# Altium footprint library libreriaPcb.PcbLib: 683 footprints (part 7 of 44)
Each footprint in its own frame and in the unit in brackets; x right, y up, seen from the top. Pads: shape width x height; smd on the part's side, far side on the other; paste and mask are expansions set on the pad; w line width, h text height; cw(c..) or ccw(c..) is an arc to the next point about the centre after c.
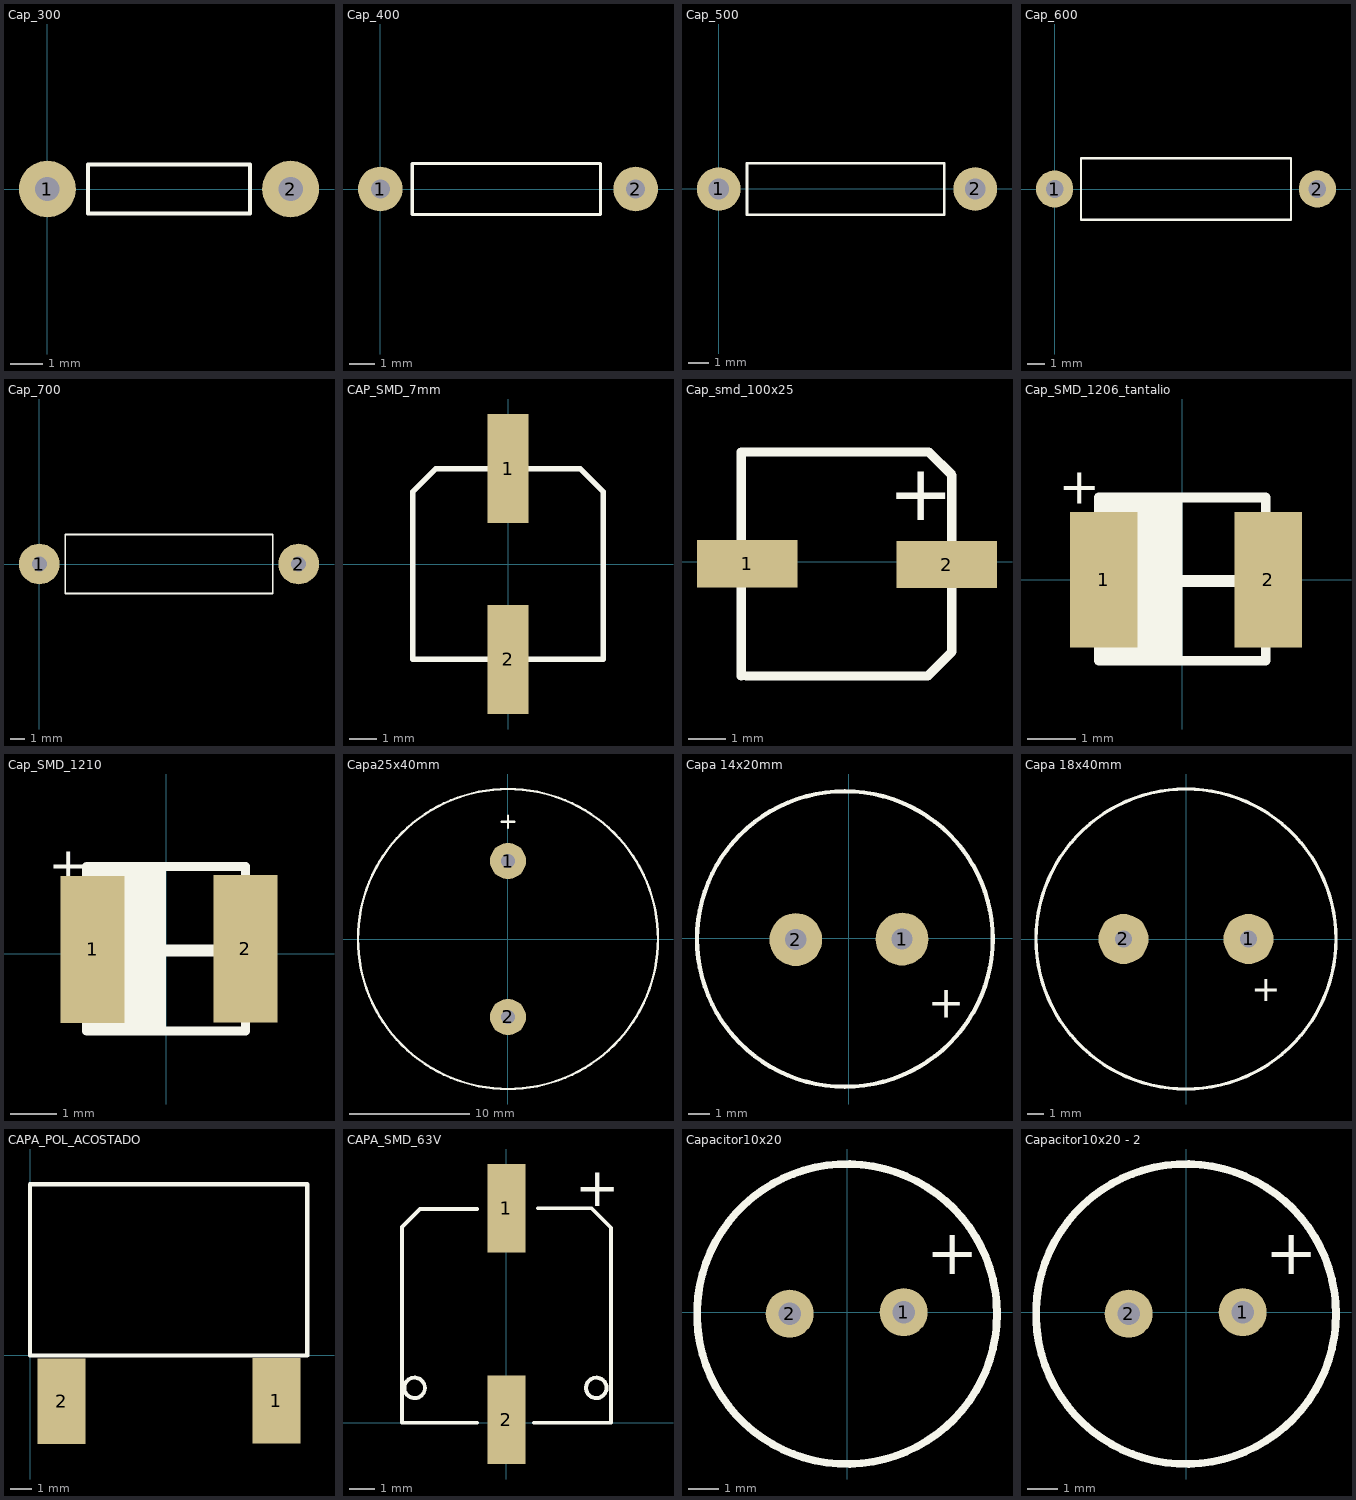
[diagram p6: the footprints below, top view; thin cyan lines are the x and y axes]

## Cap_300 [mil]
pads (2):
  round 70 / inner round 0 / far side round 70 hole 30 paste+0: 1(0,0) 2(300,0)
Top Overlay:
  lines w5: 50,-30 50,30 250,30 250,-30 50,-30

## Cap_400 [mil]
pads (2):
  round 70 / inner round 0 / far side round 70 hole 30 paste+0: 1(0,0) 2(400,0)
Top Overlay:
  lines w5: 50,-40 345,-40 345,40 50,40 50,-40

## Cap_500 [mil]
pads (2):
  round 85 / inner round 0 / far side round 85 hole 40 paste+0: 1(0,0) 2(500,0)
Top Overlay:
  lines w5: 55,-50 55,50 440,50 440,-50 55,-50

## Cap_600 [mil]
pads (2):
  round 85 / inner round 0 / far side round 85 hole 40 paste+0: 1(0,0) 2(600,0)
Top Overlay:
  lines w5: 60,-70 540,-70 540,70 60,70 60,-70

## Cap_700 [mil]
pads (2):
  round 110 / inner round 0 / far side round 110 hole 40 paste+0: 1(0,0) 2(700,0)
Top Overlay:
  lines w5: 70,-80 70,80 630,80 630,-80 70,-80

## CAP_SMD_7mm [mm]
pads (2):
  rect 1.5x4 smd: 1(0,3.5) 2(0,-3.5)
Top Overlay:
  lines w0.2: -3.5,-3.5 -3.5,2.647 -2.647,3.5 2.647,3.5 3.5,2.647 3.5,-3.5 -3.5,-3.5

## Cap_smd_100x25 [mm]
pads (2):
  rect 2.7x1.27 smd: 1(-7.78,-0.05) 2(-2.43,-0.07)
Top Overlay:
  lines w0.254: -7.938,-3.06 -7.94,0.92 -7.94,2.95 -2.91,2.95 -2.29,2.33 -2.29,-2.41 -2.94,-3.06 -7.81,-3.06
  text "+" at -4,1.12 h1.52
3D body: height 1, standoff 0, extent -7.81,-2.92 -2.43,2.82
3D body: height 6, standoff 1, extent -7.674,-2.579 -2.694,2.411

## Cap_SMD_1206_tantalio [mm]
pads (2):
  rect 1.4x2.8 smd: 1(-1.625,0) 2(1.775,0)
Top Overlay:
  rectangle: -1.65,-1.65 0,1.65
  lines w0.2: -1.725,-1.675 -1.725,0.713 -1.725,1.7 1.725,1.7 1.725,-1.675 -1.725,-1.675
  lines w0.254: -1.625,-0.025 1.625,-0.025
  text "+" at -2.55,1.575 h0.75
3D body: height 1.6, standoff 0, extent -1.412,-1.25 -0.837,1.25
3D body: height 1, standoff 0, extent 1.475,-1 1.775,1
3D body: height 1, standoff 0, extent -1.775,-1 -1.475,1
3D body: height 1.5, standoff 0, extent -1.625,-1.25 1.625,1.25

## Cap_SMD_1210 [mm]
pads (2):
  rect 1.4x3.2 smd: 1(-1.6,0.1) 2(1.725,0.112)
Top Overlay:
  rectangle: -1.65,-1.675 0,1.9
  lines w0.2: -1.725,-1.675 1.725,-1.675 1.725,1.9 -1.725,1.9 -1.725,0.713 -1.725,-1.675
  lines w0.254: -1.625,0.075 1.7,0.075
  text "+" at -2.55,1.575 h0.75
3D body: height 1.5, standoff 0, extent -1.7,-1.25 1.7,1.5
3D body: height 1, standoff 0, extent -1.775,-1 -1.475,1
3D body: height 1, standoff 0, extent 1.475,-1 1.775,1
3D body: height 1.6, standoff 0, extent -1.412,-1.25 -0.837,1.5

## Capa25x40mm [mm]
pads (2):
  round 3 hole 1.2: 1(0,6.5) 2(0,-6.5)
Top Overlay:
  circle w0.2: c0,0 r12.5
  lines w0.2: -0.508,9.756 0.508,9.756 ; 0,9.248 0,10.264
3D body: height 40, standoff 0, extent -2.242,-12.874 2.254,-12.074
3D body: height 40, standoff 0, extent -12.5,-12.495 12.5,12.495

## Capa 14x20mm [mm]
pads (2):
  round 2.5 hole 1: 1(2.515,-0.051) 2(-2.515,-0.076)
Top Overlay:
  circle w0.2: c-0.192,-0.046 r7
  text "+" at 5.488,-2.466 h1.52
3D body: height 20, standoff 0, extent -7.264,-3.353 -6.299,2.87
3D body: height 20.1, standoff 0, extent -6.619,-6.449 6.329,6.525
3D body: height 20, standoff 0, extent -7.192,-7.032 6.752,6.94

## Capa 18x40mm [mm]
pads (2):
  round 3 hole 1: 1(3.75,0) 2(-3.75,0)
Top Overlay:
  circle w0.2: c0,0 r9
  text "+" at 5.68,-2.42 h1.52
3D body: height 40, standoff 0, extent -9,-8.982 8.929,8.982
3D body: height 40.1, standoff 0, extent -8.427,-8.399 8.506,8.567
3D body: height 40, standoff 0, extent -8.997,-3.316 -8.297,3.184

## CAPA_POL_ACOSTADO [mm]
pads (2):
  rect 2.25x4 smd: 1(11.578,-2.126) 2(1.478,-2.151)
Top Overlay:
  lines w0.2: 0,0 13.03,0 13.03,8.05 0,8.05 0,0
3D body: height 5, standoff 0, extent -0.051,0 13.106,8.05

## CAPA_SMD_63V [mm]
pads (2):
  rect 1.5x3.5 smd: 1(0,8.468) 2(0,0.118)
Top Overlay:
  circle w0.152: c3.549,1.375 r0.405
  circle w0.152: c-3.626,1.375 r0.405
  lines w0.152: -1.156,0 -4.125,0 -4.125,7.725 -3.407,8.443 -1.156,8.443 ; 1.094,0 4.125,0 4.125,7.7 3.357,8.468 1.25,8.468
  text "+" at 2.725,8.55 h1.52
3D body: height 1.2, standoff 0.2, extent -4.063,0 4.076,8.505
3D body: height 10, standoff 0, extent -4.1,0.178 4.1,8.375
3D body: height 10.1, standoff 9, extent -4.151,0.15 4.138,2.4

## Capacitor10x20 [mm]
pads (2):
  round 1.6 hole 0.75: 1(1.89,0) 2(-1.91,-0.05)
Top Overlay:
  circle w0.254: c0,-0.06 r5
  text "+" at 2.65,1.27 h1.52

## Capacitor10x20 - 2 [mm]
pads (2):
  round 1.6 hole 0.75: 1(1.89,0) 2(-1.91,-0.05)
Top Overlay:
  circle w0.254: c0,-0.06 r5
  text "+" at 2.65,1.27 h1.52
3D body: height 20, standoff 0, extent -4.978,-0.914 -4.978,0.686
3D body: height 20.1, standoff 0, extent -3.902,-4.006 4.098,3.994
3D body: height 20, standoff 0, extent -4.928,-5.016 5.072,4.978